# Altium footprint library BFP620H7764XTSA1.PcbLib: 1 footprints
Each footprint in its own frame and in the unit in brackets; x right, y up, seen from the top. Pads: shape width x height; smd on the part's side, far side on the other; paste and mask are expansions set on the pad; w line width, h text height; cw(c..) or ccw(c..) is an arc to the next point about the centre after c.
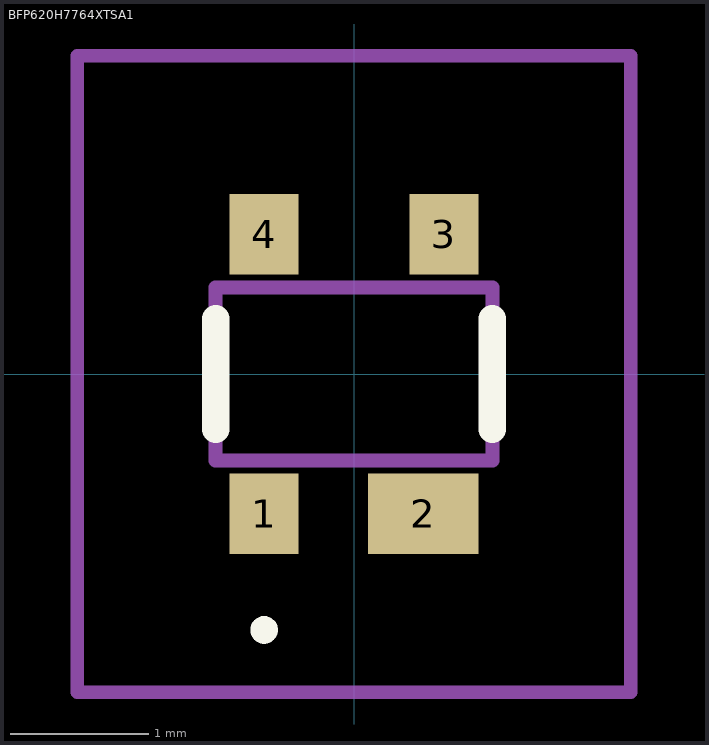
[diagram p0: the footprint, top view; thin cyan lines are the x and y axes]

## BFP620H7764XTSA1 [mm]
pads (4):
  rect 0.5x0.58 smd: 1(-0.65,-1.01) 3(0.65,1.01) 4(-0.65,1.01)
  rect 0.8x0.58 smd: 2(0.5,-1.01)
Top Overlay:
  lines w0.1: -0.65,-1.9 cw(c-0.65,-1.85) -0.65,-1.8 ; -0.65,-1.9 -0.65,-1.9 ; -0.65,-1.9 ccw(c-0.65,-1.85) -0.65,-1.8 ; -0.65,-1.8 -0.65,-1.8
  lines w0.2: -1,-0.4 -1,0.4 ; 1,-0.4 1,0.4
Mechanical 15:
  lines w0.1: -1,-0.625 1,-0.625 1,0.625 -1,0.625 -1,-0.625
Mechanical 20:
  lines w0.1: -2,-2.3 2,-2.3 2,2.3 -2,2.3 -2,-2.3